# Altium schematic symbol library Schlib.SchLib: 629 symbols (part 13 of 21)
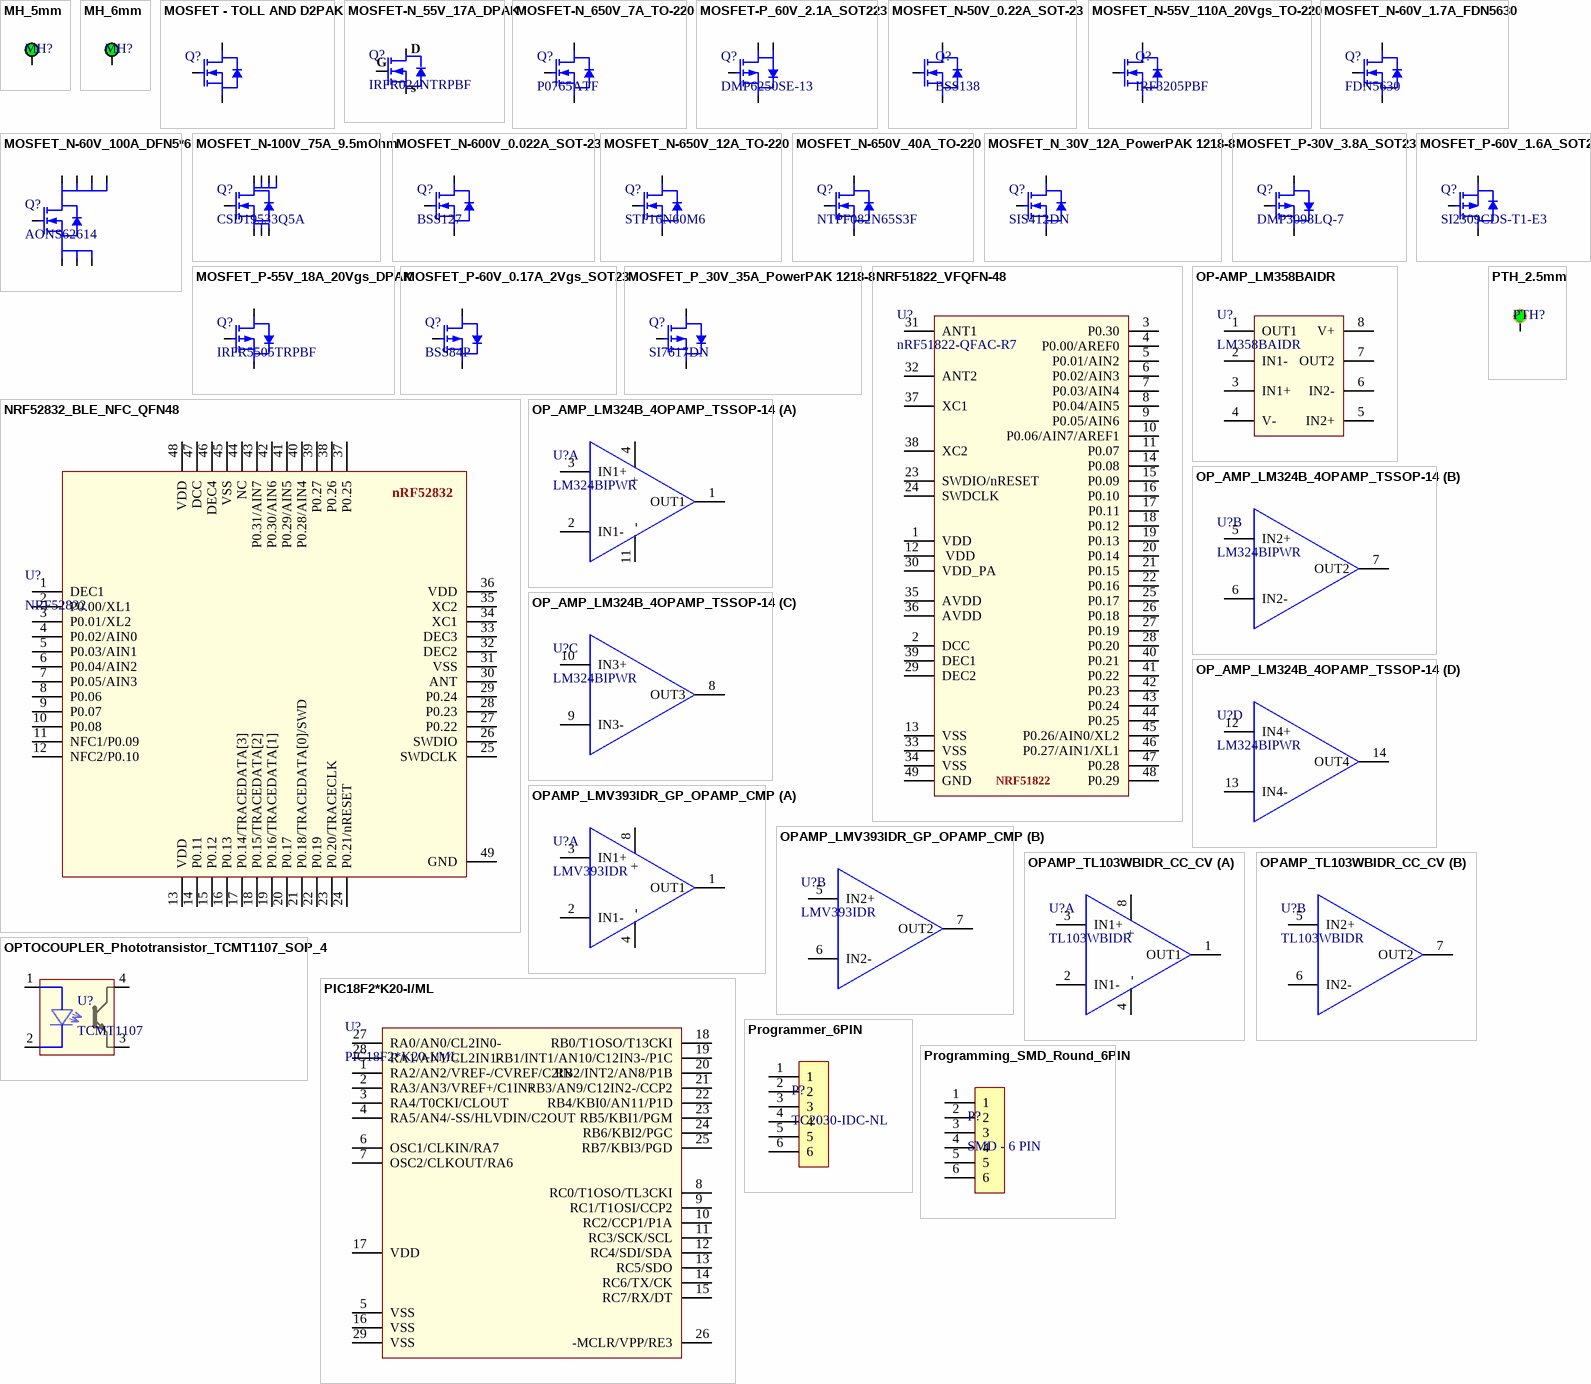
[diagram p30: symbols MH_5mm to PTH_2.5mm]

## MOSFET_N-50V_0.22A_SOT-23
designator Q?, comment BSS138
Trans MOSFET N Channel 50 Volt 0.22A 3-Pin SOT-23 Tape and Reel; Manufacturer: ON Semiconductor / Fairchild; Continuous Drain Current (ID): 220mA; Rds On Max: 3.5R; Max Power Dissipation: 360mW; Drain to Source Voltage (Vdss): 50V; Input Capacitance: 27pF; Turn-Off Delay Time: 20ns; Gate to Source Voltage (Vgs): 20V; Turn-On Delay Time: 2.5ns; Polarity: N-CHANNEL; Threshold Voltage: 1.3V; Element Configuration: Single; Drain-source On Resistance-Max: 6R; Rise Time: 9ns; Supplier 1: Digi-Key; Manufacturer Part Number: BSS138; RoHS: Yes; Category: MOSFETs; Stock 1: 54; Pricing 1: 1=0.35, 10=0.243, 100=0.1187, 500=0.09896, 1000=0.06877 (USD); Mount: Surface Mount; Case/Package: SOT-23; Number of Pins: 3; Weight: 0.03g; Min Operating Temperature: -55°C; Max Operating Temperature: 150°C; Packaging: Tape and Reel; Package Quantity: 1; Series: -; Drain to Source Resistance: 3.5R; Power Dissipation: 360mW; Voltage Rating (DC): 50V; Current Rating: 220mA; Drain to Source Breakdown Voltage: 50V; Nominal Vgs: 1.3V; Termination: SMD/SMT; Dual Supply Voltage: 50V; Fall Time: 9ns; Length: 2.92mm; Width: 1.3mm; Height: 0.93mm; Radiation Hardening: No; RoHS Compliant: Yes; Lead Free: Lead Free; Reach SVHC Compliant: No; Supplier Part Number 1: BSS138CT-ND
footprint SOT23
pins: 1 G, 2 S, 3 D

## MOSFET_N-55V_110A_20Vgs_TO-220
designator Q?, comment IRF3205PBF
MOSFET, Power; N-Ch; VDSS 55V; RDS(ON) 8 Milliohms; ID 110A; TO-220AB; PD 200W; gFS 44S; Manufacturer: International Rectifier; Rise Time: 101ns; Fall Time: 65ns; Recovery Time: 104ns; Nominal Vgs: 4V; Input Capacitance: 3.247nF; Gate to Source Voltage (Vgs): 20V; Turn-On Delay Time: 14ns; Turn-Off Delay Time: 50ns; On-State Resistance: 8mR; Supplier: Allied Electronics; Supplier Part Number: 70016950; Manufacturer Part Number: IRF3205PBF; RoHS: Yes; Category: Uncategorized; Mounting Technology: Through Hole; Case/Package: TO-220AB; Pins: 3; Min Operating Temperature: -55°C; Max Operating Temperature: 175°C; Voltage Rating (DC): 55V; Current Rating: 110A; Dual Supply Voltage: 55V; Continuous Drain Current (ID): 110A; Termination: Through Hole; Max Power Dissipation: 200W; Drain to Source Voltage (Vdss): 55V; Drain-source On Resistance-Max: 8MR; Length: 10.54mm; Width: 4.69mm; Height: 8.77mm; Lead Pitch: 2.54mm; Lead Free: Lead Free; RoHS Compliant: Yes; Reach SVHC Compliant: No; ComponentLink1URL: https://datasheet.ciiva.com/19459/1559640-19459508.pdf?src-supplier=Jameco; ComponentLink1Description: https://datasheet.ciiva.com/19459/1559640-19459508.pdf?src-supplier=Jameco; ComponentLink2URL: https://datasheet.ciiva.com/7459/irf3205-7459155.pdf?src-supplier=Newark; ComponentLink2Description: https://datasheet.ciiva.com/7459/irf3205-7459155.pdf?src-supplier=Newark; ComponentLink3URL: https://datasheet.ciiva.com/7835/irf3205-7835829.pdf?src-supplier=Element14; ComponentLink3Description: https://datasheet.ciiva.com/7835/irf3205-7835829.pdf?src-supplier=Element14; ComponentLink4URL: https://datasheet.ciiva.com/16199/irf3205-16199100.pdf?src-supplier=Future+Electronics; ComponentLink4Description: https://datasheet.ciiva.com/16199/irf3205-16199100.pdf?src-supplier=Future+Electronics; ComponentLink5URL: https://datasheet.ciiva.com/6368/irf3205-6368316.pdf?src-supplier=Digikey; ComponentLink5Description: https://datasheet.ciiva.com/6368/irf3205-6368316.pdf?src-supplier=Digikey
footprint TO220
pins: 1 G, 2 D, 3 S

## MOSFET_N-60V_1.7A_FDN5630
designator Q?, comment FDN5630
Small Signal Field-Effect Transistor, 1.7A I(D), 60V, 1-Element, N-Channel, Silicon, Metal-oxide Semiconductor FET; Manufacturer: ON Semiconductor / Fairchild; Package Body Material: Plastic; Drain-source On Resistance-Max: 100mR; Number of Elements: 1; Operating Mode: ENHANCEMENT MODE; Power Dissipation-Max (Abs): 500mW; Transistor Application: SWITCHING; Qualification Status: Not Qualified; Supplier: Arrow Electronics; Supplier Part Number: FDN5630; Manufacturer Part Number: FDN5630; RoHS: Yes; Category: MOSFETs; Stock: 15000; Pricing: 3000=0.1012, 9000=0.0839 (USD); Pins: 3; Package Shape: Rectangular; Terminal Finish: Tin; Transistor Element Material: SILICON; Max Operating Temperature: 150°C; JESD-609 Code: e3; Polarity/Channel Type: N-CHANNEL; Drain Current-Max (Abs) (ID): 1.7A; Drain Current-Max (ID): 1.7A; DS Breakdown Voltage-Min: 60V; FET Technology: METAL-OXIDE SEMICONDUCTOR; JESD-30 Code: R-PDSO-G3; Moisture Sensitivity Level: 1; Package Style: SMALL OUTLINEMeter; Surface Mount: Yes; Terminal Form: Gull Wing; Terminal Position: DUAL; Reach SVHC Compliant: Yes; RoHS Compliant: Yes; ComponentLink1URL: https://datasheet.ciiva.com:443/pdfs/VipMasterIC/IC/ONSM/ONSM-S-A0003584711/ONSM-S-A0003584469-1.pdf?src-supplier=IHS+Markit; ComponentLink1Description: https://datasheet.ciiva.com:443/pdfs/VipMasterIC/IC/ONSM/ONSM-S-A0003584711/ONSM-S-A0003584469-1.pdf?src-supplier=IHS+Markit; ComponentLink2URL: https://datasheet.ciiva.com/14170/fdn5630-eng-tds-14170927.pdf?src-supplier=Distrelec; ComponentLink2Description: https://datasheet.ciiva.com/14170/fdn5630-eng-tds-14170927.pdf?src-supplier=Distrelec; ComponentLink3URL: https://datasheet.ciiva.com/11175/fdn5630-11175170.pdf?src-supplier=Avnet; ComponentLink3Description: https://datasheet.ciiva.com/11175/fdn5630-11175170.pdf?src-supplier=Avnet; ComponentLink4URL: https://datasheet.ciiva.com/22681/11851-22681889.pdf?src-supplier=Element14; ComponentLink4Description: https://datasheet.ciiva.com/22681/11851-22681889.pdf?src-supplier=Element14; ComponentLink5URL: https://datasheet.ciiva.com/4440/fdn5630-103967-4440570.pdf?src-supplier=Mouser; ComponentLink5Description: https://datasheet.ciiva.com/4440/fdn5630-103967-4440570.pdf?src-supplier=Mouser; ComponentLink6URL: https://datasheet.ciiva.com/27050/890533-27050641.pdf?src-supplier=Jameco; ComponentLink6Description: https://datasheet.ciiva.com/27050/890533-27050641.pdf?src-supplier=Jameco; ComponentLink7URL: https://datasheet.ciiva.com/27050/890576-27050642.pdf?src-supplier=Jameco; ComponentLink7Description: https://datasheet.ciiva.com/27050/890576-27050642.pdf?src-supplier=Jameco; ComponentLink8URL: https://datasheet.ciiva.com/15137/getdatasheetpartid-70205-15137340.pdf?src-supplier=Verical; ComponentLink8Description: https://datasheet.ciiva.com/15137/getdatasheetpartid-70205-15137340.pdf?src-supplier=Verical; ComponentLink9URL: https://datasheet.ciiva.com/7968/11851-7968055.pdf?src-supplier=Element14; ComponentLink9Description: https://datasheet.ciiva.com/7968/11851-7968055.pdf?src-supplier=Element14; ComponentLink10URL: https://datasheet.ciiva.com/932/fdn5630-932125.pdf?src-supplier=Digikey; ComponentLink10Description: https://datasheet.ciiva.com/932/fdn5630-932125.pdf?src-supplier=Digikey; ComponentLink11URL: https://datasheet.ciiva.com/932/fdn5630-932126.pdf?src-supplier=Digikey; ComponentLink11Description: https://datasheet.ciiva.com/932/fdn5630-932126.pdf?src-supplier=Digikey; ComponentLink12URL: https://datasheet.ciiva.com/932/fdn5630-932127.pdf?src-supplier=Digikey; ComponentLink12Description: https://datasheet.ciiva.com/932/fdn5630-932127.pdf?src-supplier=Digikey; ComponentLink13URL: https://datasheet.ciiva.com/16747/fdn5630-16747530.pdf?src-supplier=Future+Electronics; ComponentLink13Description: https://datasheet.ciiva.com/16747/fdn5630-16747530.pdf?src-supplier=Future+Electronics
footprint SOT23
pins: 1 G, 2 S, 3 D

## MOSFET_N-60V_100A_DFN5*6
designator Q?, comment AONS62614
Power Field-Effect Transistor, 100A I(D), 60V, 0.0034ohm, 1-Element, N-Channel, Silicon, Metal-oxide Semiconductor FET; Manufacturer: Alpha & Omega Semiconductor; Supplier: Digikey; Supplier Part Number: 785-AONS62614TR-ND; Manufacturer Part Number: AONS62614; RoHS: Yes; Category: Transistors; Pricing: 3000=0.8825 (USD)
pins: 1 S, 2 S, 3 S, 4 G, 5 D, 6 D, 7 D, 8 D

## MOSFET_N-100V_75A_9.5mOhm
designator Q?, comment CSD19533Q5A
Power Field-Effect Transistor, 13A I(D), 100V, 0.0111ohm, 1-Element, N-Channel, Silicon, Metal-oxide Semiconductor FET; Manufacturer: Texas Instruments; Package Body Material: Plastic; Avalanche Energy Rating (Eas): 106mJ; Case Connection: DRAIN; Drain-source On Resistance-Max: 11.1mR; Number of Elements: 1; Operating Mode: ENHANCEMENT MODE; Pulsed Drain Current-Max (IDM): 231A; Transistor Application: SWITCHING; Drain Current-Max (Abs) (ID): 100A; Power Dissipation-Max (Abs): 3.2W; Supplier: Digikey; Supplier Part Number: 296-37479-1-ND; Manufacturer Part Number: CSD19533Q5A; RoHS: Yes; Category: MOSFETs; Stock: 32977; Pricing: 1=1.5, 10=1.227, 100=0.9544, 500=0.809, 1000=0.65902 (USD); Pins: 5; Package Shape: Rectangular; Terminal Finish: Tin; Transistor Element Material: SILICON; Max Operating Temperature: 150°C; JESD-609 Code: e3; Polarity/Channel Type: N-CHANNEL; Drain Current-Max (ID): 13A; DS Breakdown Voltage-Min: 100V; FET Technology: METAL-OXIDE SEMICONDUCTOR; JESD-30 Code: R-PDSO-F5; Moisture Sensitivity Level: 1; Package Style: SMALL OUTLINEMeter; Peak Reflow Temperature (Cel): 260°C; Surface Mount: Yes; Terminal Form: Flat; Terminal Position: DUAL; RoHS Compliant: Yes; Reach SVHC Compliant: No; ComponentLink1URL: https://www.ti.com:443/lit/ds/symlink/csd19533q5a.pdf?src-supplier=IHS+Markit; ComponentLink1Description: https://www.ti.com:443/lit/ds/symlink/csd19533q5a.pdf?src-supplier=IHS+Markit; ComponentLink2URL: https://datasheet.ciiva.com/29752/csd19533q5a-29752194.pdf?src-supplier=Digikey; ComponentLink2Description: https://datasheet.ciiva.com/29752/csd19533q5a-29752194.pdf?src-supplier=Digikey; ComponentLink3URL: https://datasheet.ciiva.com/46430/1824682-46430379.pdf?src-supplier=Element14; ComponentLink3Description: https://datasheet.ciiva.com/46430/1824682-46430379.pdf?src-supplier=Element14; ComponentLink4URL: https://datasheet.ciiva.com/29752/csd19533q5a-29752206.pdf?src-supplier=Digikey; ComponentLink4Description: https://datasheet.ciiva.com/29752/csd19533q5a-29752206.pdf?src-supplier=Digikey; ComponentLink5URL: https://datasheet.ciiva.com/30021/csd19533q5a-30021948.pdf?src-supplier=Avnet; ComponentLink5Description: https://datasheet.ciiva.com/30021/csd19533q5a-30021948.pdf?src-supplier=Avnet
footprint SON-8 5*6mm
pins: 1 S, 2 S, 3 S, 4 G, 5 D, 6 D, 7 D, 8 D

## MOSFET_N-600V_0.022A_SOT-23
designator Q?, comment BSS127
Small Signal Field-Effect Transistor, 0.021A I(D), 600V, 1-Element, N-Channel, Silicon, Metal-oxide Semiconductor FET; Manufacturer: Infineon; Package Body Material: Plastic; Drain Current-Max (ID): 21mA; Drain-source On Resistance-Max: 600R; Feedback Cap-Max (Crss): 1.5pF; Number of Elements: 1; Operating Mode: ENHANCEMENT MODE; Power Dissipation-Max (Abs): 500mW; Transistor Application: SWITCHING; Qualification Status: Not Qualified; Supplier: Future Electronics; Supplier Part Number: 2174089; Manufacturer Part Number: BSS127; RoHS: Yes; Stock: 645000; Pricing: 3000=0.0665, 6000=0.0648, 12000=0.0632, 15000=0.0627, 45000=0.0596 (USD); Pins: 3; Package Shape: Rectangular; Transistor Element Material: SILICON; Max Operating Temperature: 150°C; Polarity/Channel Type: N-CHANNEL; DS Breakdown Voltage-Min: 600V; FET Technology: METAL-OXIDE SEMICONDUCTOR; JESD-30 Code: R-PDSO-G3; Package Style: SMALL OUTLINEMeter; Surface Mount: Yes; Terminal Form: Gull Wing; Terminal Position: DUAL; Moisture Sensitivity Level: 1; Drain Current-Max (Abs) (ID): 21mA; Reach SVHC Compliant: Yes; RoHS Compliant: Yes; ComponentLink1URL: https://datasheet.ciiva.com:443/pdfs/VipMasterIC/IC/INFN/INFN-S-A0009010417/INFN-S-A0009010417-1.pdf?src-supplier=IHS+Markit; ComponentLink1Description: https://datasheet.ciiva.com:443/pdfs/VipMasterIC/IC/INFN/INFN-S-A0009010417/INFN-S-A0009010417-1.pdf?src-supplier=IHS+Markit
footprint SOT23
pins: 1 G, 2 S, 3 D

## MOSFET_N-650V_12A_TO-220
designator Q?, comment STF16N60M6
N-Channel 600 V 12A (Tc) 25W (Tc) Through Hole TO-220FP; Manufacturer: STMicroelectronics; Supplier: Digikey; Supplier Part Number: 497-STF16N60M6-ND; Manufacturer Part Number: STF16N60M6; RoHS: Yes; Category: MOSFETs; Stock: 1174; Pricing: 1=3.53, 50=1.7766, 100=1.607, 500=1.3095, 1000=1.21395, 2000=1.142 (USD); Reach SVHC Compliant: No; RoHS Compliant: Yes; ComponentLink1URL: https://datasheet.ciiva.com:443/pdfs/VipMasterIC/IC/SGST/SGST-S-A0005580916/SGST-S-A0005580916-1.pdf?src-supplier=IHS+Markit; ComponentLink1Description: https://datasheet.ciiva.com:443/pdfs/VipMasterIC/IC/SGST/SGST-S-A0005580916/SGST-S-A0005580916-1.pdf?src-supplier=IHS+Markit
footprint TO220
pins: 1 G, 2 D, 3 S

## MOSFET_N-650V_40A_TO-220
designator Q?, comment NTPF082N65S3F
Power Field-Effect Transistor, 40A I(D), 650V, 0.082ohm, 1-Element, N-Channel, Silicon, Metal-oxide Semiconductor FET, TO-220AB; Manufacturer: ON Semiconductor; Supplier: Rs; Supplier Part Number: 1784602; Manufacturer Part Number: NTPF082N65S3F; RoHS: Yes; Category: MOSFETs; Stock: 329; Pricing: 1=6.38, 10=5.5, 100=4.33, 250=4.07, 500=3.85 (EUR); Reach SVHC Compliant: No; ComponentLink1URL: https://datasheet.ciiva.com:443/pdfs/VipMasterIC/IC/ONSM/ONSM-S-A0008956171/ONSM-S-A0008956171-1.pdf?src-supplier=IHS+Markit; ComponentLink1Description: https://datasheet.ciiva.com:443/pdfs/VipMasterIC/IC/ONSM/ONSM-S-A0008956171/ONSM-S-A0008956171-1.pdf?src-supplier=IHS+Markit; ComponentLink2URL: http://www.onsemi.com/pub/Collateral/NTPF082N65S3F-D.PDF?src-supplier=Digikey; ComponentLink2Description: http://www.onsemi.com/pub/Collateral/NTPF082N65S3F-D.PDF?src-supplier=Digikey
footprint TO220
pins: 1 G, 2 D, 3 S

## MOSFET_N_30V_12A_PowerPAK 1218-8
designator Q?, comment SIS412DN
Power Field-Effect Transistor, 8.7A I(D), 30V, 0.024ohm, 1-Element, N-Channel, Silicon, Metal-oxide Semiconductor FET; Manufacturer: Vishay Siliconix; Manufacturer Part Number: SIS412DN-T1-GE3; Avalanche Energy Rating (Eas): 1.25mJ; Case Connection: DRAIN; Drain Current-Max (Abs) (ID): 12A; Drain-source On Resistance-Max: 24mR; Number of Elements: 1; Operating Mode: ENHANCEMENT MODE; Power Dissipation-Max (Abs): 15.6W; Pulsed Drain Current-Max (IDM): 30A; Time @ Peak Reflow Temperature-Max (s): 40s; Transistor Application: SWITCHING; Qualification Status: Not Qualified; Supplier: Arrow Electronics; Supplier Part Number: SIS412DN-T1-GE3; RoHS: Yes; Category: MOSFETs; Stock: 15; Pricing: 1=0.3425, 10=0.2013 (USD); Pins: 5; Package Shape: Square; Terminal Finish: Tin; Transistor Element Material: SILICON; Max Operating Temperature: 150°C; JESD-609 Code: e3; Polarity/Channel Type: N-CHANNEL; Drain Current-Max (ID): 8.7A; DS Breakdown Voltage-Min: 30V; FET Technology: METAL-OXIDE SEMICONDUCTOR; Moisture Sensitivity Level: 1; Package Style: SMALL OUTLINEMeter; Peak Reflow Temperature (Cel): 260°C; Surface Mount: Yes; Terminal Form: C BEND; Terminal Position: DUAL; Reach SVHC Compliant: Yes; RoHS Compliant: Yes; ComponentLink1URL: https://datasheet.ciiva.com:443/pdfs/VipMasterIC/IC/VISH/VISH-S-A0000862428/VISH-S-A0000862428-1.pdf?src-supplier=IHS+Markit; ComponentLink1Description: https://datasheet.ciiva.com:443/pdfs/VipMasterIC/IC/VISH/VISH-S-A0000862428/VISH-S-A0000862428-1.pdf?src-supplier=IHS+Markit; ComponentLink2URL: https://datasheet.ciiva.com/23729/1758800-23729781.pdf?src-supplier=Newark; ComponentLink2Description: https://datasheet.ciiva.com/23729/1758800-23729781.pdf?src-supplier=Newark; ComponentLink3URL: https://datasheet.ciiva.com/4438/sis412dn-280002-4438287.pdf?src-supplier=Mouser; ComponentLink3Description: https://datasheet.ciiva.com/4438/sis412dn-280002-4438287.pdf?src-supplier=Mouser; ComponentLink4URL: https://datasheet.ciiva.com/8059/sis412dn-8059196.pdf?src-supplier=Element14; ComponentLink4Description: https://datasheet.ciiva.com/8059/sis412dn-8059196.pdf?src-supplier=Element14
footprint PowerPack 1212-8
pins: 1,2,3 S, 4 G, 5,6,7,8 D

## MOSFET_P-30V_3.8A_SOT23
designator Q?, comment DMP3098LQ-7
P-Channel 30 V 3.8A (Ta) 1.08W (Ta) Surface Mount SOT-23-3; Manufacturer: Diodes; Supplier: Avnet; Supplier Part Number: DMP3098LQ-7; Manufacturer Part Number: DMP3098LQ-7; RoHS: Yes; Category: MOSFETs; Stock: 45000; Pricing: 3000=0.06358, 6000=0.0613, 12000=0.05946, 18000=0.05772, 24000=0.05555, 30000=0.05468, 300000=0.05382 (USD); Reach SVHC Compliant: Yes; RoHS Compliant: Yes; ComponentLink1URL: https://datasheet.ciiva.com:443/pdfs/VipMasterIC/IC/DIOD/DIOD-S-A0002960474/DIOD-S-A0002960474-1.pdf?src-supplier=IHS+Markit; ComponentLink1Description: https://datasheet.ciiva.com:443/pdfs/VipMasterIC/IC/DIOD/DIOD-S-A0002960474/DIOD-S-A0002960474-1.pdf?src-supplier=IHS+Markit; ComponentLink2URL: https://datasheet.octopart.com/DMP3098LQ-7-Diodes-Inc.-datasheet-41192499.pdf?src-supplier=Future+Electronics; ComponentLink2Description: https://datasheet.octopart.com/DMP3098LQ-7-Diodes-Inc.-datasheet-41192499.pdf?src-supplier=Future+Electronics; ComponentLink3URL: https://www.diodes.com/assets/Datasheets/DMP3098LQ.pdf?src-supplier=Digikey; ComponentLink3Description: https://www.diodes.com/assets/Datasheets/DMP3098LQ.pdf?src-supplier=Digikey; ComponentLink4URL: https://datasheet.octopart.com/DMP3098LQ-7-Diodes-Inc.-datasheet-160640236.pdf?src-supplier=Farnell; ComponentLink4Description: https://datasheet.octopart.com/DMP3098LQ-7-Diodes-Inc.-datasheet-160640236.pdf?src-supplier=Farnell
footprint SOT23
pins: 1 G, 2 S, 3 D

## MOSFET_P-55V_18A_20Vgs_DPAK
designator Q?, comment IRFR5505TRPBF
Power Field-Effect Transistor, 18A I(D), 55V, 0.11ohm, 1-Element, P-Channel, Silicon, Metal-oxide Semiconductor FET, TO-252AA; Manufacturer: Infineon; Package Body Material: Plastic; Avalanche Energy Rating (Eas): 150mJ; Case Connection: DRAIN; Drain-source On Resistance-Max: 110mR; Number of Elements: 1; Operating Mode: ENHANCEMENT MODE; Pulsed Drain Current-Max (IDM): 64A; Time @ Peak Reflow Temperature-Max (s): 30s; Transistor Application: SWITCHING; Power Dissipation-Max (Abs): 57W; Qualification Status: Not Qualified; Supplier: Farnell; Supplier Part Number: 2468041; Manufacturer Part Number: IRFR5505TRPBF; RoHS: Yes; Category: MOSFETs; Stock: 71883; Pricing: 1=1.06, 10=0.828, 100=0.584, 500=0.483, 1000=0.424, 5000=0.385 (EUR); Pins: 2; Package Shape: Rectangular; Terminal Finish: Nickel; Transistor Element Material: SILICON; Max Operating Temperature: 150°C; JESD-609 Code: e3; JESD-30 Code: R-PSSO-G2; Moisture Sensitivity Level: 1; Surface Mount: Yes; Terminal Form: Gull Wing; Terminal Position: SINGLE; Polarity/Channel Type: P-CHANNEL; Drain Current-Max (ID): 18A; DS Breakdown Voltage-Min: 55V; FET Technology: METAL-OXIDE SEMICONDUCTOR; Package Style: SMALL OUTLINEMeter; Peak Reflow Temperature (Cel): 260°C; Drain Current-Max (Abs) (ID): 18A; RoHS Compliant: Yes; JEDEC-95 Code: TO-252AA; Reach SVHC Compliant: No; ComponentLink1URL: https://datasheet.ciiva.com:443/pdfs/VipMasterIC/IC/IRSD/IRSDS13381/IRSDS13381-1.pdf?src-supplier=IHS+Markit; ComponentLink1Description: https://datasheet.ciiva.com:443/pdfs/VipMasterIC/IC/IRSD/IRSDS13381/IRSDS13381-1.pdf?src-supplier=IHS+Markit
footprint DPAK - TO-252
pins: 1 G, 3 S, 4 D

## MOSFET_P-60V_0.17A_2Vgs_SOT23
designator Q?, comment BSS84P
Small Signal Field-Effect Transistor, 0.17A I(D), 60V, 1-Element, P-Channel, Silicon, Metal-oxide Semiconductor FET; Manufacturer: Infineon; Manufacturer Part Number: BSS84PH6327XTSA2; Package Body Material: Plastic; Drain Current-Max (ID): 170mA; Drain-source On Resistance-Max: 8R; Feedback Cap-Max (Crss): 3pF; Number of Elements: 1; Operating Mode: ENHANCEMENT MODE; Reference Standard: AEC-Q101; Supplier: Arrow Electronics; Supplier Part Number: BSS84PH6327XTSA2; RoHS: Yes; Category: MOSFETs; Stock: 1056000; Pricing: 3000=0.0309, 9000=0.0267, 24000=0.022 (USD); Pins: 3; Package Shape: Rectangular; Transistor Element Material: SILICON; Polarity/Channel Type: P-CHANNEL; DS Breakdown Voltage-Min: 60V; FET Technology: METAL-OXIDE SEMICONDUCTOR; JESD-30 Code: R-PDSO-G3; Package Style: SMALL OUTLINEMeter; Surface Mount: Yes; Terminal Form: Gull Wing; Terminal Position: DUAL; Reach SVHC Compliant: Yes; RoHS Compliant: Yes; ComponentLink1URL: https://datasheet.ciiva.com:443/pdfs/VipMasterIC/IC/INFN/INFNS17565/INFNS17565-1.pdf?src-supplier=IHS+Markit; ComponentLink1Description: https://datasheet.ciiva.com:443/pdfs/VipMasterIC/IC/INFN/INFNS17565/INFNS17565-1.pdf?src-supplier=IHS+Markit; ComponentLink2URL: https://datasheet.ciiva.com/6372/infineon-bss84p-ds-v02-07-en-6372859.pdf?src-supplier=Digikey; ComponentLink2Description: https://datasheet.ciiva.com/6372/infineon-bss84p-ds-v02-07-en-6372859.pdf?src-supplier=Digikey
footprint SOT23
pins: 1 G, 2 S, 3 D

## MOSFET_P-60V_1.6A_SOT23
designator Q?, comment SI2309CDS-T1-E3
Small Signal Field-Effect Transistor, 1.6A I(D), 60V, 1-Element, P-Channel, Silicon, Metal-oxide Semiconductor FET, TO-236AB; Manufacturer: Vishay Siliconix; Package Body Material: Plastic; Drain-source On Resistance-Max: 345mR; Number of Elements: 1; Operating Mode: ENHANCEMENT MODE; Power Dissipation-Max (Abs): 1.7W; Time @ Peak Reflow Temperature-Max (s): 30s; Transistor Application: SWITCHING; Qualification Status: Not Qualified; Supplier: Mouser; Supplier Part Number: 781-SI2309CDS-E3; Manufacturer Part Number: SI2309CDS-T1-E3; RoHS: Yes; Category: MOSFETs; Stock: 56960; Pricing: 1=0.53, 10=0.453, 50=0.453, 100=0.315, 1000=0.2, 10000=0.157 (USD); Pins: 3; Package Shape: Rectangular; Terminal Finish: Tin; Transistor Element Material: SILICON; Max Operating Temperature: 150°C; JESD-609 Code: e3; Polarity/Channel Type: P-CHANNEL; Drain Current-Max (Abs) (ID): 1.6A; Drain Current-Max (ID): 1.6A; DS Breakdown Voltage-Min: 60V; FET Technology: METAL-OXIDE SEMICONDUCTOR; JESD-30 Code: R-PDSO-G3; Moisture Sensitivity Level: 1; Package Style: SMALL OUTLINEMeter; Peak Reflow Temperature (Cel): 260°C; Surface Mount: Yes; Terminal Form: Gull Wing; Terminal Position: DUAL; JEDEC-95 Code: TO-236AB; Reach SVHC Compliant: Yes; RoHS Compliant: Yes; ComponentLink1URL: https://datasheet.ciiva.com:443/pdfs/VipMasterIC/IC/VISH/VISH-S-A0003607279/VISH-S-A0003311492-1.pdf?src-supplier=IHS+Markit; ComponentLink1Description: https://datasheet.ciiva.com:443/pdfs/VipMasterIC/IC/VISH/VISH-S-A0003607279/VISH-S-A0003311492-1.pdf?src-supplier=IHS+Markit; ComponentLink2URL: https://datasheet.ciiva.com/29742/si2309cd-29742879.pdf?src-supplier=Digikey; ComponentLink2Description: https://datasheet.ciiva.com/29742/si2309cd-29742879.pdf?src-supplier=Digikey; ComponentLink3URL: https://datasheet.ciiva.com/16217/si2309cd-16217597.pdf?src-supplier=Future+Electronics; ComponentLink3Description: https://datasheet.ciiva.com/16217/si2309cd-16217597.pdf?src-supplier=Future+Electronics
footprint SOT23
pins: 1 G, 2 S, 3 D

## MOSFET_P_30V_35A_PowerPAK 1218-8
designator Q?, comment SI7617DN
Power Field-Effect Transistor, 13.9A I(D), 30V, 0.0123ohm, 1-Element, P-Channel, Silicon, Metal-oxide Semiconductor FET; Manufacturer: Vishay Siliconix; Manufacturer Part Number: SI7617DN-T1-GE3; Avalanche Energy Rating (Eas): 42mJ; Case Connection: DRAIN; Drain Current-Max (Abs) (ID): 35A; Drain-source On Resistance-Max: 12.3mR; Number of Elements: 1; Operating Mode: ENHANCEMENT MODE; Power Dissipation-Max (Abs): 52W; Pulsed Drain Current-Max (IDM): 60A; Time @ Peak Reflow Temperature-Max (s): 40s; Transistor Application: SWITCHING; Qualification Status: Not Qualified; Supplier: Arrow Electronics; Supplier Part Number: SI7617DN-T1-GE3; RoHS: Yes; Category: MOSFETs; Stock: 33000; Pricing: 3000=0.3033 (USD); Pins: 5; Package Shape: Square; Terminal Finish: Tin; Transistor Element Material: SILICON; Max Operating Temperature: 150°C; JESD-609 Code: e3; Polarity/Channel Type: P-CHANNEL; Drain Current-Max (ID): 13.9A; DS Breakdown Voltage-Min: 30V; FET Technology: METAL-OXIDE SEMICONDUCTOR; Moisture Sensitivity Level: 1; Package Style: SMALL OUTLINEMeter; Peak Reflow Temperature (Cel): 260°C; Surface Mount: Yes; Terminal Form: C BEND; Terminal Position: DUAL; RoHS Compliant: Yes; Reach SVHC Compliant: No; ComponentLink1URL: https://datasheet.ciiva.com:443/pdfs/VipMasterIC/IC/VISH/VISH-S-A0000784872/VISH-S-A0000784872-1.pdf?src-supplier=IHS+Markit; ComponentLink1Description: https://datasheet.ciiva.com:443/pdfs/VipMasterIC/IC/VISH/VISH-S-A0000784872/VISH-S-A0000784872-1.pdf?src-supplier=IHS+Markit; ComponentLink2URL: https://datasheet.ciiva.com/7710/1750692-7710535.pdf?src-supplier=Element14; ComponentLink2Description: https://datasheet.ciiva.com/7710/1750692-7710535.pdf?src-supplier=Element14; ComponentLink3URL: https://datasheet.ciiva.com/7710/si7617dn-7710289.pdf?src-supplier=Element14; ComponentLink3Description: https://datasheet.ciiva.com/7710/si7617dn-7710289.pdf?src-supplier=Element14; ComponentLink4URL: https://datasheet.ciiva.com/4442/si7617dn-244516-4442618.pdf?src-supplier=Mouser; ComponentLink4Description: https://datasheet.ciiva.com/4442/si7617dn-244516-4442618.pdf?src-supplier=Mouser; ComponentLink5URL: https://datasheet.ciiva.com/6379/si7617dn-6379227.pdf?src-supplier=Digikey; ComponentLink5Description: https://datasheet.ciiva.com/6379/si7617dn-6379227.pdf?src-supplier=Digikey; ComponentLink6URL: https://datasheet.ciiva.com/6379/si7617dn-6379228.pdf?src-supplier=Digikey; ComponentLink6Description: https://datasheet.ciiva.com/6379/si7617dn-6379228.pdf?src-supplier=Digikey; ComponentLink7URL: https://datasheet.ciiva.com/6379/si7617dn-6379231.pdf?src-supplier=Digikey; ComponentLink7Description: https://datasheet.ciiva.com/6379/si7617dn-6379231.pdf?src-supplier=Digikey; ComponentLink8URL: https://datasheet.ciiva.com/11159/si7617dn-11159822.pdf?src-supplier=Avnet; ComponentLink8Description: https://datasheet.ciiva.com/11159/si7617dn-11159822.pdf?src-supplier=Avnet; ComponentLink9URL: https://datasheet.ciiva.com/28541/1750692-28541756.pdf?src-supplier=Element14; ComponentLink9Description: https://datasheet.ciiva.com/28541/1750692-28541756.pdf?src-supplier=Element14
footprint PowerPack 1212-8
pins: 1,2,3 S, 4 G, 5,6,7,8 D

## NRF51822_VFQFN-48
designator U?, comment nRF51822-QFAC-R7
Telecom Circuit, 1-Func; Manufacturer: Nordic Semiconductor; Channels: 1; Nominal Supply Voltage: 1.8V; Supplier: Farnell; Supplier Part Number: 2842309; Manufacturer Part Number: nRF51822-QFAC-R7; RoHS: Yes; Category: RF Receivers, Transceivers; Stock: 1431; Pricing: 1=3.02, 10=2.9, 25=2.78, 50=2.66, 100=2.54, 250=2.51, 500=2.5 (EUR); Case/Package: HVQCCN; Pins: 48; Package Shape: Square; Terminal Finish: Tin; Min Operating Temperature: -25°C; Max Operating Temperature: 75°C; JESD-609 Code: e3; JESD-30 Code: S-XQCC-N48; Package Style: CHIP CARRIER, HEAT SINK/SLUG, VERY THIN PROFILEMeter; Surface Mount: Yes; Telecom IC Type: TELECOM CIRCUIT; Terminal Form: No Lead; Terminal Position: QUAD; Length: 6mm; Width: 6mm; Height - Seated (Max): 0.95mm; Terminal Pitch: 0.4mm; Temperature Grade: COMMERCIAL EXTENDED; Reach SVHC Compliant: Yes; RoHS Compliant: Yes; ComponentLink1URL: https://datasheet.ciiva.com:443/pdfs/VipMasterIC/IC/NRSA/NRSA-S-A0003827004/NRSA-S-A0003827004-1.pdf?src-supplier=IHS+Markit; ComponentLink1Description: https://datasheet.ciiva.com:443/pdfs/VipMasterIC/IC/NRSA/NRSA-S-A0003827004/NRSA-S-A0003827004-1.pdf?src-supplier=IHS+Markit; ComponentLink2URL: http://www.farnell.com/datasheets/2576736.pdf?src-supplier=Farnell; ComponentLink2Description: http://www.farnell.com/datasheets/2576736.pdf?src-supplier=Farnell; ComponentLink3URL: http://www.mouser.com/ds/2/297/nRF51822_PB_v2.5-1108907.pdf?src-supplier=Mouser; ComponentLink3Description: http://www.mouser.com/ds/2/297/nRF51822_PB_v2.5-1108907.pdf?src-supplier=Mouser; ComponentLink4URL: http://www.nordicsemi.com/eng/content/download/13358/214991/file/nRF51822_PS%20v3.1.pdf?src-supplier=Digikey; ComponentLink4Description: http://www.nordicsemi.com/eng/content/download/13358/214991/file/nRF51822_PS%20v3.1.pdf?src-supplier=Digikey; ComponentLink5URL: http://infocenter.nordicsemi.com/pdf/nRF51822_PB_v2.5.pdf?src-supplier=Digikey; ComponentLink5Description: http://infocenter.nordicsemi.com/pdf/nRF51822_PB_v2.5.pdf?src-supplier=Digikey; ComponentLink6URL: https://datasheet.octopart.com/NRF51822-QFAC-R7-Nordic-Semiconductor-datasheet-104421094.pdf?src-supplier=Element14; ComponentLink6Description: https://datasheet.octopart.com/NRF51822-QFAC-R7-Nordic-Semiconductor-datasheet-104421094.pdf?src-supplier=Element14
footprint VFQFN-48
pins: 1 VDD, 2 DCC, 3 P0.30, 4 P0.00/AREF0, 5 P0.01/AIN2, 6 P0.02/AIN3, 7 P0.03/AIN4, 8 P0.04/AIN5, 9 P0.05/AIN6, 10 P0.06/AIN7/AREF1, 11 P0.07, 12  VDD, 13 VSS, 14 P0.08, 15 P0.09, 16 P0.10, 17 P0.11, 18 P0.12, 19 P0.13, 20 P0.14, 21 P0.15, 22 P0.16, 23 SWDIO/nRESET, 24 SWDCLK, 25 P0.17, 26 P0.18, 27 P0.19, 28 P0.20, 29 DEC2, 30 VDD_PA, 31 ANT1, 32 ANT2, 33 VSS, 34 VSS, 35 AVDD, 36 AVDD, 37 XC1, 38 XC2, 39 DEC1, 40 P0.21, 41 P0.22, 42 P0.23, 43 P0.24, 44 P0.25, 45 P0.26/AIN0/XL2, 46 P0.27/AIN1/XL1, 47 P0.28, 48 P0.29, 49 GND
text: NRF51822

## NRF52832_BLE_NFC_QFN48
designator U?, comment NRF52832
IC RF TxRx + MCU Bluetooth, algemeen ISM >1GHz Bluetooth v5.3 2,4GHz 48-VFQFN blootliggende pad; Manufacturer: Nordic Semiconductor; Manufacturer Part Number: NRF52832-QFAA-R; Channels: 1; Nominal Supply Voltage: 3V; Telecom IC Type: TELECOM CIRCUIT; Supplier: Digikey; Supplier Part Number: 4823-NRF52832-QFAA-RCT-ND; RoHS: Yes; Category: RF Receivers, Transceivers; Stock: 75811; Pricing: 1=3.47, 100=2.96, 500=2.57002, 1000=2.35001 (USD); Case/Package: HVQCCN; Pins: 48; Package Shape: Square; Min Operating Temperature: -40°C; Max Operating Temperature: 85°C; JESD-30 Code: S-XQCC-N48; Package Style: CHIP CARRIER, HEAT SINK/SLUG, VERY THIN PROFILEMeter; Surface Mount: Yes; Terminal Form: No Lead; Terminal Position: QUAD; Length: 6mm; Width: 6mm; Height - Seated (Max): 0.95mm; Terminal Pitch: 0.4mm; Temperature Grade: INDUSTRIAL; Reach SVHC Compliant: Yes; RoHS Compliant: Yes; ComponentLink1URL: https://datasheet.ciiva.com:443/pdfs/VipMasterIC/IC/NRSA/NRSA-S-A0002414264/NRSA-S-A0002414264-1.pdf?src-supplier=IHS+Markit; ComponentLink1Description: https://datasheet.ciiva.com:443/pdfs/VipMasterIC/IC/NRSA/NRSA-S-A0002414264/NRSA-S-A0002414264-1.pdf?src-supplier=IHS+Markit; ComponentLink2URL: http://www.mouser.com/ds/2/297/nRF52832%20Product%20Brief%20v1.2-890472.pdf?src-supplier=Mouser; ComponentLink2Description: http://www.mouser.com/ds/2/297/nRF52832%20Product%20Brief%20v1.2-890472.pdf?src-supplier=Mouser; ComponentLink3URL: http://infocenter.nordicsemi.com/pdf/nRF52832_PB_v1.7.pdf?src-supplier=Digikey; ComponentLink3Description: http://infocenter.nordicsemi.com/pdf/nRF52832_PB_v1.7.pdf?src-supplier=Digikey; ComponentLink4URL: http://infocenter.nordicsemi.com/pdf/nRF52832_PS_v1.4.pdf?src-supplier=Digikey; ComponentLink4Description: http://infocenter.nordicsemi.com/pdf/nRF52832_PS_v1.4.pdf?src-supplier=Digikey; ComponentLink5URL: https://datasheet.octopart.com/NRF52832-QFAA-R-Nordic-Semiconductor-datasheet-104421228.pdf?src-supplier=LKR; ComponentLink5Description: https://datasheet.octopart.com/NRF52832-QFAA-R-Nordic-Semiconductor-datasheet-104421228.pdf?src-supplier=LKR
footprint VFQFN-48
pins: 1 DEC1, 2 P0.00/XL1, 3 P0.01/XL2, 4 P0.02/AIN0, 5 P0.03/AIN1, 6 P0.04/AIN2, 7 P0.05/AIN3, 8 P0.06, 9 P0.07, 10 P0.08, 11 NFC1/P0.09, 12 NFC2/P0.10, 13 VDD, 14 P0.11, 15 P0.12, 16 P0.13, 17 P0.14/TRACEDATA[3], 18 P0.15/TRACEDATA[2], 19 P0.16/TRACEDATA[1], 20 P0.17, 21 P0.18/TRACEDATA[0]/SWD, 22 P0.19, 23 P0.20/TRACECLK, 24 P0.21/nRESET, 25 SWDCLK, 26 SWDIO, 27 P0.22, 28 P0.23, 29 P0.24, 30 ANT, 31 VSS, 32 DEC2, 33 DEC3, 34 XC1, 35 XC2, 36 VDD, 37 P0.25, 38 P0.26, 39 P0.27, 40 P0.28/AIN4, 41 P0.29/AIN5, 42 P0.30/AIN6, 43 P0.31/AIN7, 44 NC, 45 VSS, 46 DEC4, 47 DCC, 48 VDD, 49 GND
text: nRF52832

## OP-AMP_LM358BAIDR
designator U?, comment LM358BAIDR
Operational Amplifier, 2 Func, 2000uV Offset-Max, PDSO8; Manufacturer: Texas Instruments; Supplier: Mouser; Supplier Part Number: 595-LM358BAIDR; Manufacturer Part Number: LM358BAIDR; RoHS: Yes; Category: Amplifiers - Op Amps, Buffer, Instrumentation; Stock: 45927; Pricing: 1=0.38, 10=0.26, 50=0.26, 100=0.123, 1000=0.092, 10000=0.072 (USD); ComponentLink1URL: https://www.ti.com:443/lit/ds/symlink/lm158.pdf?src-supplier=IHS+Markit; ComponentLink1Description: https://www.ti.com:443/lit/ds/symlink/lm158.pdf?src-supplier=IHS+Markit
footprint SO-8 (1.27mm pitch)
pins: 1 OUT1, 2 IN1-, 3 IN1+, 4 V-, 5 IN2+, 6 IN2-, 7 OUT2, 8 V+

## OP_AMP_LM324B_4OPAMP_TSSOP-14
designator U?, comment LM324BIPWR
Quad, 36-V 1.2-MHz 3-mV offset voltage operational amplifier with -40°C to 85°C operation 14-TSSOP -40 to 85; Manufacturer: Texas Instruments; Supplier: Mouser; Supplier Part Number: 595-LM324BIPWR; Manufacturer Part Number: LM324BIPWR; RoHS: No; Category: Amplifiers - Op Amps, Buffer, Instrumentation; Stock: 11582; Pricing: 1=0.19, 10=0.116, 50=0.116, 100=0.086, 1000=0.082, 10000=0.073 (USD)
part A pins: 1 OUT1, 2 IN1-, 3 IN1+, 4 +, 11 -
part B pins: 5 IN2+, 6 IN2-, 7 OUT2
part C pins: 8 OUT3, 9 IN3-, 10 IN3+
part D pins: 12 IN4+, 13 IN4-, 14 OUT4

## OPAMP_LMV393IDR_GP_OPAMP_CMP
designator U?, comment LMV393IDR
Comparator, 2 Func, 7000uV Offset-Max, 600ns Response Time, BIPolar, PDSO8; Manufacturer: Texas Instruments; Package Body Material: Plastic; Output Type: OPEN-COLLECTOR; Average Bias Current-Max (IIB): 400nA; Bias Current-Max (IIB) @25C: 250nA; Input Offset Voltage-Max: 9mV; Channels: 2; Package Equivalence Code: SOP8,.25; Power Supplies: 3/5V; Max Supply Current: 250uA; Supply Voltage Limit-Max: 5.5V; Nominal Supply Voltage: 5V; Qualification Status: Not Qualified; Supplier: Mouser; Supplier Part Number: 595-LMV393IDR; Manufacturer Part Number: LMV393IDR; RoHS: Yes; Category: Amplifiers - Op Amps, Buffer, Instrumentation; Stock: 7103; Pricing: 1=0.53, 10=0.336, 50=0.336, 100=0.272, 1000=0.249, 10000=0.218 (USD); Case/Package: SOP; Pins: 8; Package Shape: Rectangular; Terminal Finish: Tin; Min Operating Temperature: -40°C; Max Operating Temperature: 125°C; JESD-609 Code: e3; Amplifier Type: COMPARATOR; JESD-30 Code: R-PDSO-G8; Moisture Sensitivity Level: 1; Package Style: SMALL OUTLINEMeter; Peak Reflow Temperature (Cel): 260°C; Response Time-Nom: 600ns; Surface Mount: Yes; Technology: BIPOLAR; Terminal Form: Gull Wing; Terminal Position: DUAL; Length: 4.9mm; Width: 3.9mm; Height - Seated (Max): 1.75mm; Terminal Pitch: 1.27mm; Temperature Grade: AUTOMOTIVE; Reach SVHC Compliant: Yes; RoHS Compliant: Yes; ComponentLink1URL: https://www.ti.com:443/lit/ds/symlink/lmv331.pdf?src-supplier=IHS+Markit; ComponentLink1Description: https://www.ti.com:443/lit/ds/symlink/lmv331.pdf?src-supplier=IHS+Markit; ComponentLink2URL: https://datasheet.ciiva.com/1827/lmv393-1827312.pdf?src-supplier=Digikey; ComponentLink2Description: https://datasheet.ciiva.com/1827/lmv393-1827312.pdf?src-supplier=Digikey; ComponentLink3URL: https://datasheet.ciiva.com/15131/getdatasheetpartid-346208-15131265.pdf?src-supplier=Verical; ComponentLink3Description: https://datasheet.ciiva.com/15131/getdatasheetpartid-346208-15131265.pdf?src-supplier=Verical; ComponentLink4URL: https://datasheet.ciiva.com/41677/1861062-41677295.pdf?src-supplier=Newark; ComponentLink4Description: https://datasheet.ciiva.com/41677/1861062-41677295.pdf?src-supplier=Newark; ComponentLink5URL: https://datasheet.ciiva.com/46398/1887605-46398044.pdf?src-supplier=Element14; ComponentLink5Description: https://datasheet.ciiva.com/46398/1887605-46398044.pdf?src-supplier=Element14; ComponentLink6URL: https://datasheet.ciiva.com/1827/lmv393-1827313.pdf?src-supplier=Digikey; ComponentLink6Description: https://datasheet.ciiva.com/1827/lmv393-1827313.pdf?src-supplier=Digikey; ComponentLink7URL: https://datasheet.ciiva.com/1827/lmv393-1827314.pdf?src-supplier=Digikey; ComponentLink7Description: https://datasheet.ciiva.com/1827/lmv393-1827314.pdf?src-supplier=Digikey; ComponentLink8URL: https://datasheet.ciiva.com/2972/lmv393-2972105.pdf?src-supplier=Avnet; ComponentLink8Description: https://datasheet.ciiva.com/2972/lmv393-2972105.pdf?src-supplier=Avnet
footprint SO-8 (1.27mm pitch)
part A pins: 1 OUT1, 2 IN1-, 3 IN1+, 4 -, 8 +
part B pins: 5 IN2+, 6 IN2-, 7 OUT2

## OPAMP_TL103WBIDR_CC_CV
designator U?, comment TL103WBIDR
Standard Amplifier 2 Circuit Single-Ended 8-SOIC; Manufacturer: Texas Instruments; Supplier: Digikey; Supplier Part Number: 296-TL103WBIDRCT-ND; Manufacturer Part Number: TL103WBIDR; RoHS: No; Stock: 2871; Pricing: 1=0.48, 10=0.335, 25=0.2992, 100=0.2599, 250=0.24108, 500=0.22972, 1000=0.22037 (USD)
footprint SO-8 (1.27mm pitch)
part A pins: 1 OUT1, 2 IN1-, 3 IN1+, 4 -, 8 +
part B pins: 5 IN2+, 6 IN2-, 7 OUT2

## OPTOCOUPLER_Phototransistor_TCMT1107_SOP_4
designator U?, comment TCMT1107
Transistor Output Optocoupler, 1-Element, 3750V Isolation; Manufacturer: Vishay Semiconductors; Coll-emtr Bkdn Voltage-Min: 70V; Current Transfer Ratio-Min: 80%; Dark Current-Max: 100nA; Forward Current: 60mA; Forward Voltage: 1.6V; Isolation Voltage-Max: 3.75kV; Number of Elements: 1; On-State Current-Max: 50mA; Max Power Dissipation: 150mW; Supplier: Rs; Supplier Part Number: 6998341P; Manufacturer Part Number: TCMT1107; RoHS: Yes; Category: Optocouplers; Stock: 5880; Pricing: 100=0.367, 250=0.292, 500=0.277, 1000=0.225 (EUR); Mounting Technology: Surface Mount; Terminal Finish: Tin; Min Operating Temperature: -40°C; Max Operating Temperature: 100°C; JESD-609 Code: e3; Current Transfer Ratio-Nom: 80%; Optoelectronic Device Type: TRANSISTOR OUTPUT OPTOCOUPLER; Reach SVHC Compliant: Yes; RoHS Compliant: Yes; ComponentLink1URL: https://datasheet.ciiva.com:443/pdfs/VipMasterIC/IC/VISH/VISH-S-A0005443697/VISH-S-A0005443697-1.pdf?src-supplier=IHS+Markit; ComponentLink1Description: https://datasheet.ciiva.com:443/pdfs/VipMasterIC/IC/VISH/VISH-S-A0005443697/VISH-S-A0005443697-1.pdf?src-supplier=IHS+Markit; ComponentLink2URL: https://datasheet.ciiva.com/11772/0900766b80e30939-11772485.pdf?src-supplier=Rs; ComponentLink2Description: https://datasheet.ciiva.com/11772/0900766b80e30939-11772485.pdf?src-supplier=Rs; ComponentLink3URL: https://datasheet.ciiva.com/27051/1107109-27051440.pdf?src-supplier=Jameco; ComponentLink3Description: https://datasheet.ciiva.com/27051/1107109-27051440.pdf?src-supplier=Jameco; ComponentLink4URL: https://datasheet.ciiva.com/14079/tcmt1100-14079945.pdf?src-supplier=Digikey; ComponentLink4Description: https://datasheet.ciiva.com/14079/tcmt1100-14079945.pdf?src-supplier=Digikey; ComponentLink5URL: https://datasheet.ciiva.com/14079/tcmt1100-14079946.pdf?src-supplier=Digikey; ComponentLink5Description: https://datasheet.ciiva.com/14079/tcmt1100-14079946.pdf?src-supplier=Digikey; ComponentLink6URL: https://datasheet.ciiva.com/8092/tcmt1100-8092285.pdf?src-supplier=Avnet; ComponentLink6Description: https://datasheet.ciiva.com/8092/tcmt1100-8092285.pdf?src-supplier=Avnet; ComponentLink7URL: https://datasheet.ciiva.com/8040/485045-8040879.pdf?src-supplier=Element14; ComponentLink7Description: https://datasheet.ciiva.com/8040/485045-8040879.pdf?src-supplier=Element14; ComponentLink8URL: https://datasheet.ciiva.com/12088/tcmt1100-103040-12088638.pdf?src-supplier=Mouser; ComponentLink8Description: https://datasheet.ciiva.com/12088/tcmt1100-103040-12088638.pdf?src-supplier=Mouser
footprint SOIC - 4
pins: 1, 2, 3, 4

## PIC18F2*K20-I/ML
designator U?
MCU
footprint QFN-28
pins: 1 RA2/AN2/VREF-/CVREF/C2IN, 2 RA3/AN3/VREF+/C1IN+, 3 RA4/T0CKI/CLOUT, 4 RA5/AN4/-SS/HLVDIN/C2OUT, 5 VSS, 6 OSC1/CLKIN/RA7, 7 OSC2/CLKOUT/RA6, 8 RC0/T1OSO/TL3CKI, 9 RC1/T1OSI/CCP2, 10 RC2/CCP1/P1A, 11 RC3/SCK/SCL, 12 RC4/SDI/SDA, 13 RC5/SDO, 14 RC6/TX/CK, 15 RC7/RX/DT, 16 VSS, 17 VDD, 18 RB0/T1OSO/T13CKI, 19 RB1/INT1/AN10/C12IN3-/P1C, 20 RB2/INT2/AN8/P1B, 21 RB3/AN9/C12IN2-/CCP2, 22 RB4/KBI0/AN11/P1D, 23 RB5/KBI1/PGM, 24 RB6/KBI2/PGC, 25 RB7/KBI3/PGD, 26 -MCLR/VPP/RE3, 27 RA0/AN0/CL2IN0-, 28 RA1/AN1/CL2IN1-, 29 VSS

## Programmer_6PIN
designator P?, comment TC2030-IDC-NL  (no BOM)
footprint TC2030_Programmer
pins: 1, 2, 3, 4, 5, 6

## Programming_SMD_Round_6PIN
designator P?, comment SMD - 6 PIN  (no BOM)
footprint Programming-SMD 6-PIN
pins: 1, 2, 3, 4, 5, 6

## PTH_2.5mm
designator PTH?
Plated Through Hole 2.5mm -
footprint PTH 2.5mm
pins: 1

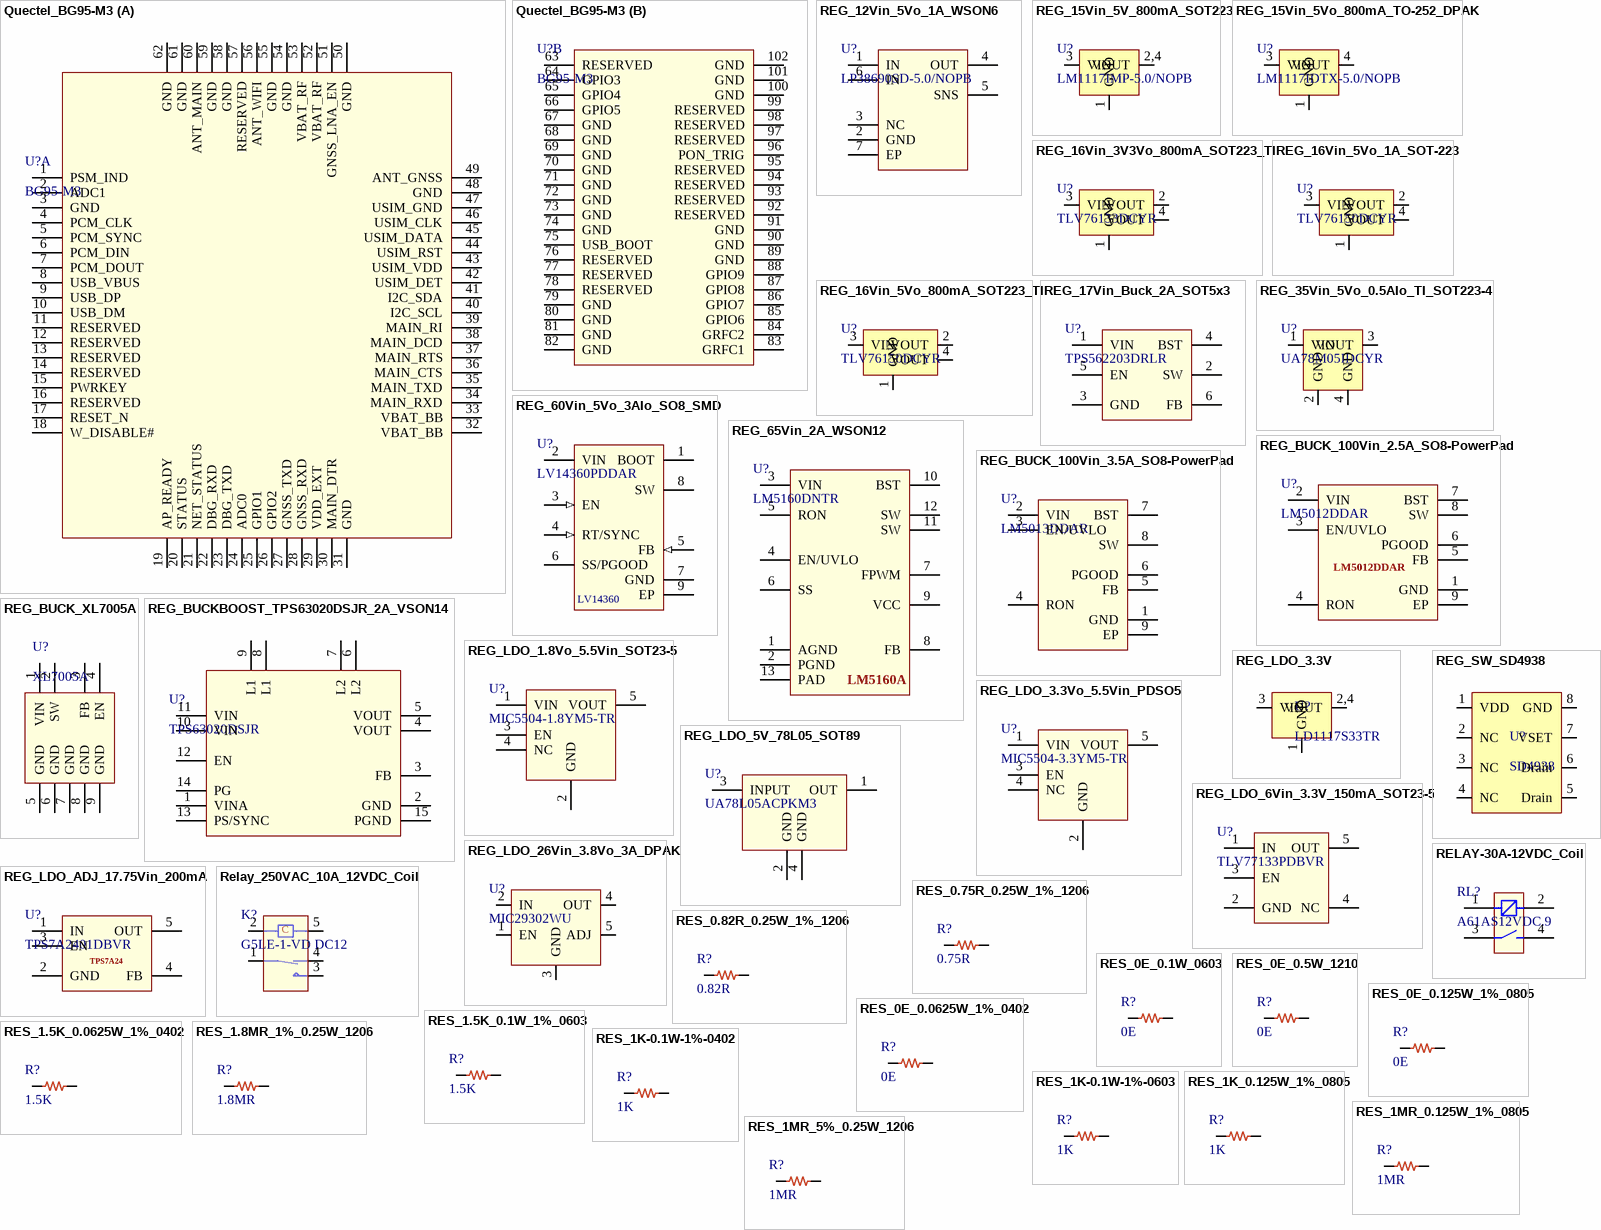
[diagram p12: symbols Quectel_BG95-M3 to RES_1MR_5%_0.25W_1206]

## Quectel_BG95-M3
designator U?, comment BG95-M3
LPWA BG95 Cat M1/Cat NB2/EGPRS series
footprint BG95-M3
part A pins: 1 PSM_IND, 2 ADC1, 3 GND, 4 PCM_CLK, 5 PCM_SYNC, 6 PCM_DIN, 7 PCM_DOUT, 8 USB_VBUS, 9 USB_DP, 10 USB_DM, 11 RESERVED, 12 RESERVED, 13 RESERVED, 14 RESERVED, 15 PWRKEY, 16 RESERVED, 17 RESET_N, 18 W_DISABLE#, 19 AP_READY, 20 STATUS, 21 NET_STATUS, 22 DBG_RXD, 23 DBG_TXD, 24 ADC0, 25 GPIO1, 26 GPIO2, 27 GNSS_TXD, 28 GNSS_RXD, 29 VDD_EXT, 30 MAIN_DTR, 31 GND, 32 VBAT_BB, 33 VBAT_BB, 34 MAIN_RXD, 35 MAIN_TXD, 36 MAIN_CTS, 37 MAIN_RTS, 38 MAIN_DCD, 39 MAIN_RI, 40 I2C_SCL, 41 I2C_SDA, 42 USIM_DET, 43 USIM_VDD, 44 USIM_RST, 45 USIM_DATA, 46 USIM_CLK, 47 USIM_GND, 48 GND, 49 ANT_GNSS, 50 GND, 51 GNSS_LNA_EN, 52 VBAT_RF, 53 VBAT_RF, 54 GND, 55 GND, 56 ANT_WIFI, 57 RESERVED, 58 GND, 59 GND, 60 ANT_MAIN, 61 GND, 62 GND
part B pins: 63 RESERVED, 64 GPIO3, 65 GPIO4, 66 GPIO5, 67 GND, 68 GND, 69 GND, 70 GND, 71 GND, 72 GND, 73 GND, 74 GND, 75 USB_BOOT, 76 RESERVED, 77 RESERVED, 78 RESERVED, 79 GND, 80 GND, 81 GND, 82 GND, 83 GRFC1, 84 GRFC2, 85 GPIO6, 86 GPIO7, 87 GPIO8, 88 GPIO9, 89 GND, 90 GND, 91 GND, 92 RESERVED, 93 RESERVED, 94 RESERVED, 95 RESERVED, 96 PON_TRIG, 97 RESERVED, 98 RESERVED, 99 RESERVED, 100 GND, 101 GND, 102 GND

## REG_12Vin_5Vo_1A_WSON6
designator U?, comment LP38690SD-5.0/NOPB
Fixed Positive LDO Regulator, 5V, 0.8V Dropout, CMOS, PDSO6; Manufacturer: TI National Semiconductor; Package Body Material: Plastic; Dropout Voltage1-Max: 800mV; Dropout Voltage1-Nom: 450mV; Input Voltage Absolute-Max: 12V; Max Supply Voltage: 10V; Min Input Voltage: 2.7V; Channels: 1; Output Current1-Max: 1A; Output Voltage1-Max: 5.25V; Output Voltage1-Min: 4.75V; Regulator Type: FIXED POSITIVE SINGLE OUTPUT LDO REGULATOR; Time @ Peak Reflow Temperature-Max (s): 40s; Voltage Tolerance-Max: 5%; Qualification Status: Not Qualified; Supplier: Mouser; Supplier Part Number: 926-LP38690SD50NOPB; Manufacturer Part Number: LP38690SD-5.0/NOPB; RoHS: Yes; Category: Voltage Regulators - Linear; Stock: 1221; Pricing: 1=1.86, 10=1.37, 50=1.25, 100=1.11, 1000=0.974, 10000=0.906 (USD); Case/Package: HVSON; Pins: 6; Package Shape: Square; Terminal Finish: Tin; JESD-609 Code: e3; Adjustability: FIXED; JESD-30 Code: S-PDSO-N6; Moisture Sensitivity Level: 1; Number of Outputs: 1; Operating Temperature, TJ-Max: 125°C; Operating Temperature, TJ-Min: -40°C; Output Voltage1-Nom: 5V; Packaging: Tape and Reel; Peak Reflow Temperature (Cel): 260°C; Surface Mount: Yes; Technology: CMOS; Terminal Form: No Lead; Terminal Position: DUAL; Length: 3mm; Width: 3mm; Height - Seated (Max): 0.8mm; Terminal Pitch: 0.95mm; RoHS Compliant: Yes; ComponentLink1URL: https://datasheet.ciiva.com:443/pdfs/VipMasterIC/IC/NATL/NATLS11950/NATLS11950-1.pdf?src-supplier=IHS+Markit; ComponentLink1Description: https://datasheet.ciiva.com:443/pdfs/VipMasterIC/IC/NATL/NATLS11950/NATLS11950-1.pdf?src-supplier=IHS+Markit; ComponentLink2URL: https://datasheet.ciiva.com/6591/lp38690-6591724.pdf?src-supplier=Digikey; ComponentLink2Description: https://datasheet.ciiva.com/6591/lp38690-6591724.pdf?src-supplier=Digikey; ComponentLink3URL: https://datasheet.ciiva.com/6591/lp38690-6591725.pdf?src-supplier=Digikey; ComponentLink3Description: https://datasheet.ciiva.com/6591/lp38690-6591725.pdf?src-supplier=Digikey
footprint WSON6
pins: 1 IN, 2 GND, 3 NC, 4 OUT, 5 SNS, 6 IN, 7 EP

## REG_15Vin_5V_800mA_SOT223
designator U?, comment LM1117IMP-5.0/NOPB
Fixed Positive LDO Regulator, 5V, 1.4V Dropout, BIPolar, PDSO4; Manufacturer: TI National Semiconductor; Package Body Material: Plastic; Dropout Voltage1-Nom: 1.2V; Input Voltage Absolute-Max: 20V; Max Supply Voltage: 15V; Min Input Voltage: 6.5V; Line Regulation-Max: 0.01%; Load Regulation-Max: 0.015%; Channels: 1; Output Current1-Max: 800mA; Output Voltage1-Max: 5.2V; Output Voltage1-Min: 4.8V; Regulator Type: FIXED POSITIVE SINGLE OUTPUT LDO REGULATOR; Time @ Peak Reflow Temperature-Max (s): 40s; Voltage Tolerance-Max: 2%; Qualification Status: Not Qualified; Supplier: Mouser; Supplier Part Number: 926-LM1117IMP5.0NOPB; Manufacturer Part Number: LM1117IMP-5.0/NOPB; RoHS: Yes; Category: Voltage Regulators - Linear; Stock: 10004; Pricing: 1=1.61, 10=1.44, 50=1.44, 100=1.12, 1000=0.734, 10000=0.626 (USD); Case/Package: SOP; Pins: 4; Package Shape: Rectangular; Terminal Finish: Tin; JESD-609 Code: e3; Adjustability: FIXED; Dropout Voltage1-Max: 1.4V; JESD-30 Code: R-PDSO-G4; Moisture Sensitivity Level: 1; Number of Outputs: 1; Operating Temperature, TJ-Max: 125°C; Operating Temperature, TJ-Min: -40°C; Output Voltage1-Nom: 5V; Package Style: SMALL OUTLINEMeter; Packaging: Tape and Reel; Peak Reflow Temperature (Cel): 260°C; Surface Mount: Yes; Technology: BIPOLAR; Terminal Form: Gull Wing; Terminal Position: DUAL; Length: 6.5mm; Width: 3.56mm; Height - Seated (Max): 1.8mm; Terminal Pitch: 2.3mm; Reach SVHC Compliant: Yes; RoHS Compliant: Yes; ComponentLink1URL: https://datasheet.ciiva.com:443/pdfs/VipMasterIC/IC/TXII/TXIIS100070/TXIIS146040-1.pdf?src-supplier=IHS+Markit; ComponentLink1Description: https://datasheet.ciiva.com:443/pdfs/VipMasterIC/IC/TXII/TXIIS100070/TXIIS146040-1.pdf?src-supplier=IHS+Markit; ComponentLink2URL: https://datasheet.ciiva.com/14274/lm1117-n-14274734.pdf?src-supplier=Avnet; ComponentLink2Description: https://datasheet.ciiva.com/14274/lm1117-n-14274734.pdf?src-supplier=Avnet; ComponentLink3URL: https://datasheet.ciiva.com/6580/lm1117-n-6580070.pdf?src-supplier=Digikey; ComponentLink3Description: https://datasheet.ciiva.com/6580/lm1117-n-6580070.pdf?src-supplier=Digikey
footprint SOT223 (SOT223, 4-Leads, Body 6.50x7.00mm (avg), Pitch 2.30mm, IPC Medium Density)
pins: 1 GND, 2,4 VOUT, 3 VIN

## REG_15Vin_5Vo_800mA_TO-252_DPAK
designator U?, comment LM1117IDTX-5.0/NOPB
Fixed Positive LDO Regulator, 5V, 1.4V Dropout, BIPolar, PSSO2; Manufacturer: TI National Semiconductor; Package Body Material: Plastic; Dropout Voltage1-Nom: 1.2V; Input Voltage Absolute-Max: 20V; Max Supply Voltage: 15V; Min Input Voltage: 6.5V; Line Regulation-Max: 0.01%; Load Regulation-Max: 0.015%; Channels: 1; Output Current1-Max: 800mA; Output Voltage1-Max: 5.2V; Output Voltage1-Min: 4.8V; Package Equivalence Code: SMSIP3H,.38,90TB; Regulator Type: FIXED POSITIVE SINGLE OUTPUT LDO REGULATOR; Time @ Peak Reflow Temperature-Max (s): 40s; Voltage Tolerance-Max: 2%; Qualification Status: Not Qualified; Supplier: Digikey; Supplier Part Number: LM1117IDTX-5.0/NOPBCT-ND; Manufacturer Part Number: LM1117IDTX-5.0/NOPB; RoHS: Yes; Category: Voltage Regulators - Linear; Stock: 11578; Pricing: 1=1.56, 10=1.405, 25=1.3256, 100=1.1294, 250=1.06048, 500=0.92794, 1000=0.76886 (USD); Case/Package: TO-252; Pins: 2; Package Shape: Rectangular; Terminal Finish: Tin; JESD-609 Code: e3; Adjustability: FIXED; Dropout Voltage1-Max: 1.4V; JESD-30 Code: R-PSSO-G2; Moisture Sensitivity Level: 2; Number of Outputs: 1; Operating Temperature, TJ-Max: 125°C; Operating Temperature, TJ-Min: -40°C; Output Voltage1-Nom: 5V; Package Style: SMALL OUTLINEMeter; Packaging: Tape and Reel; Peak Reflow Temperature (Cel): 260°C; Surface Mount: Yes; Technology: BIPOLAR; Terminal Form: Gull Wing; Terminal Position: SINGLE; Length: 6.58mm; Width: 6.1mm; Height - Seated (Max): 2.55mm; Terminal Pitch: 2.285mm; Reach SVHC Compliant: Yes; RoHS Compliant: Yes; ComponentLink1URL: https://datasheet.ciiva.com:443/pdfs/VipMasterIC/IC/TXII/TXIIS100070/TXIIS146040-1.pdf?src-supplier=IHS+Markit; ComponentLink1Description: https://datasheet.ciiva.com:443/pdfs/VipMasterIC/IC/TXII/TXIIS100070/TXIIS146040-1.pdf?src-supplier=IHS+Markit; ComponentLink2URL: https://datasheet.ciiva.com/15111/getdatasheetpartid-97958-15111689.pdf?src-supplier=Verical; ComponentLink2Description: https://datasheet.ciiva.com/15111/getdatasheetpartid-97958-15111689.pdf?src-supplier=Verical; ComponentLink3URL: https://datasheet.ciiva.com/41457/001013625-da-01-en-ic-reg-lm1117idtx-5-0-nopb-to-252-3-tid-41457380.pdf?src-supplier=Conrad; ComponentLink3Description: https://datasheet.ciiva.com/41457/001013625-da-01-en-ic-reg-lm1117idtx-5-0-nopb-to-252-3-tid-41457380.pdf?src-supplier=Conrad; ComponentLink4URL: https://datasheet.ciiva.com/6591/lm1117-n-6591769.pdf?src-supplier=Digikey; ComponentLink4Description: https://datasheet.ciiva.com/6591/lm1117-n-6591769.pdf?src-supplier=Digikey; ComponentLink5URL: https://datasheet.ciiva.com/6591/lm1117-n-6591770.pdf?src-supplier=Digikey; ComponentLink5Description: https://datasheet.ciiva.com/6591/lm1117-n-6591770.pdf?src-supplier=Digikey; ComponentLink6URL: https://datasheet.ciiva.com/6591/lm1117-n-6591771.pdf?src-supplier=Digikey; ComponentLink6Description: https://datasheet.ciiva.com/6591/lm1117-n-6591771.pdf?src-supplier=Digikey
footprint DPAK - TO-252
pins: 1 GND, 3 VIN, 4 VOUT

## REG_16Vin_3V3Vo_800mA_SOT223_TI
designator U?, comment TLV76133DCYR
1-A 16-V high-PSRR linear voltage regulator 4-SOT-223 -40 to 125; Manufacturer: Texas Instruments; Supplier: Mouser; Supplier Part Number: 595-TLV76133DCYR; Manufacturer Part Number: TLV76133DCYR; RoHS: No; Stock: 67656; Pricing: 1=0.41, 10=0.252, 50=0.252, 100=0.202, 1000=0.184, 10000=0.176 (USD)
footprint SOT223 (SOT223, 4-Leads, Body 6.50x7.00mm (avg), Pitch 2.30mm, IPC Medium Density)
pins: 1 GND, 2 VOUT, 3 VIN, 4 VOUT

## REG_16Vin_5Vo_1A_SOT-223
designator U?, comment TLV76150DCYR
1-A 16-V high-PSRR linear voltage regulator 4-SOT-223 -40 to 125; Manufacturer: Texas Instruments; Supplier: Mouser; Supplier Part Number: 595-TLV76150DCYR; Manufacturer Part Number: TLV76150DCYR; RoHS: No; Category: Integrated Circuits (ICs); Stock: 18435; Pricing: 1=0.53, 10=0.454, 50=0.454, 100=0.34, 1000=0.213, 10000=0.163 (USD)
footprint SOT223 (SOT223, 4-Leads, Body 6.50x7.00mm (avg), Pitch 2.30mm, IPC Medium Density)
pins: 1 GND, 2 VOUT, 3 VIN, 4 VOUT